# Altium schematic symbol library Sch_Resistors.SchLib: 18 symbols
Pins are listed as number, name and electrical type; pins without a type are passive.

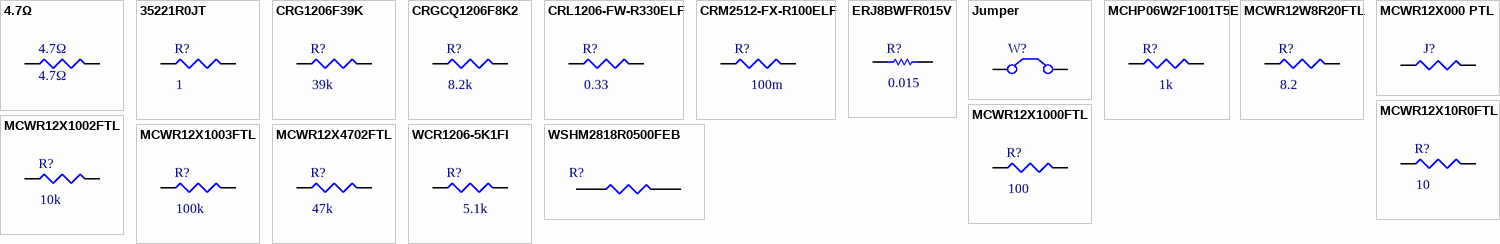
[diagram p0: symbols 4.7Ω to WSHM2818R0500FEB]

## 4.7Ω
designator 4.7Ω
Resistor; Published: 8-Jun-2000; LatestRevisionDate: 29-May-2009; LatestRevisionNote: IPC-7351 Footprint Added.; PackageReference: J1-0603; Publisher: Altium Limited; PackageDescription: Chip Resistor
footprint RESC3216X75N
pins: 1, 1, 2, 2

## 35221R0JT
designator R?  value 1  (hidden comment: 35221R0JT)
Resistor 1 3W; Published: 8-Jun-2000; LatestRevisionDate: 29-May-2009; LatestRevisionNote: IPC-7351 Footprint Added.; PackageReference: J1-0603; Publisher: Altium Limited; PackageDescription: Chip Resistor; Supplier 1: Farnell
footprint RESC6432X120N
pins: 1, 1, 1, 1, 1, 1, 1, 1, 2, 2, 2, 2, 2, 2, 2, 2

## CRG1206F39K
designator R?  value 39k  (hidden comment: CRG1206F39K)
Resistor 39k; Published: 8-Jun-2000; LatestRevisionDate: 29-May-2009; LatestRevisionNote: IPC-7351 Footprint Added.; PackageReference: J1-0603; Publisher: Altium Limited; PackageDescription: Chip Resistor; supplier: farnell
footprint RESC3216X75N
pins: 1, 2

## CRGCQ1206F8K2
designator R?  value 8.2k  (hidden comment: CRGCQ1206F8K2)
Resistor 8.2k; Published: 8-Jun-2000; LatestRevisionDate: 29-May-2009; LatestRevisionNote: IPC-7351 Footprint Added.; PackageReference: J1-0603; Publisher: Altium Limited; PackageDescription: Chip Resistor; Supplier 1: Mouser
footprint RESC3216X75N
pins: 1, 2

## CRL1206-FW-R330ELF
designator R?  value 0.33  (hidden comment: CRL1206-FW-R330ELF)
Resistor 0.33; Published: 8-Jun-2000; LatestRevisionDate: 29-May-2009; LatestRevisionNote: IPC-7351 Footprint Added.; PackageReference: J1-0603; Publisher: Altium Limited; PackageDescription: Chip Resistor; Supplier 1: Farnell
footprint RESC3216X75N
pins: 1, 2

## CRM2512-FX-R100ELF
designator R?, comment value 100m  (hidden comment: ???)
Resistor 100m; Published: 8-Jun-2000; LatestRevisionDate: 29-May-2009; LatestRevisionNote: IPC-7351 Footprint Added.; PackageReference: J1-0603; Publisher: Altium Limited; PackageDescription: Chip Resistor; Supplier 1: Mouser
footprint RESC6331X80N
pins: 1, 2

## ERJ8BWFR015V
designator R?  value 0.015  (hidden comment: ERJ8BWFR015V)
Shunt resistor 0.015; Published: 8-Jun-2000; LatestRevisionDate: 17-Jul-2002; LatestRevisionNote: Re-released for DXP Platform.; PackageReference: AXIAL-0.3; Publisher: Altium Limited; PackageDescription: Axial Device, Thru-Hole; 2 Leads; 0.3 in Pin Spacing; Supplier 1: Mouser
footprint RESC3216X75N
pins: 1, 2

## Jumper
designator W?  (value not drawn)
Jumper Wire; Published: 24-Mar-1999; LatestRevisionDate: 17-Jul-2002; LatestRevisionNote: Re-released for DXP Platform.; PackageReference: RAD-0.2; Publisher: Altium Limited; PackageDescription: Radial Cap, Thru-Hole; 2 Leads; 0.2 in Pin Spacing
footprint RAD-0.2 (Radial Cap, Thru-Hole; 2 Leads; 0.2 in Pin Spacing)
pins: 1 C1, 2 C2

## MCHP06W2F1001T5E
designator R?  value 1k  (hidden comment: MCHP06W2F1001T5E)
Resistor 1k; Published: 8-Jun-2000; LatestRevisionDate: 29-May-2009; LatestRevisionNote: IPC-7351 Footprint Added.; PackageReference: J1-0603; Publisher: Altium Limited; PackageDescription: Chip Resistor; supplier: farnell; Supplier 1: Farnell
footprint RESC3216X75N
pins: 1, 2

## MCWR12W8R20FTL
designator R?  value 8.2  (hidden comment: MCWR12W8R20FTL)
Resistor 8.2; Published: 8-Jun-2000; LatestRevisionDate: 29-May-2009; LatestRevisionNote: IPC-7351 Footprint Added.; PackageReference: J1-0603; Publisher: Altium Limited; PackageDescription: Chip Resistor; Supplier 1: Farnell
footprint RESC3216X75N
pins: 1, 2

## MCWR12X000 PTL
designator J?  (value not drawn)
Zero ohm resistor; Value: 0
footprint RESC3216X75N
pins: 1, 2

## MCWR12X10R0FTL
designator R?  value 10  (hidden comment: MCWR12X10R0FTL)
Resistor 10; Published: 8-Jun-2000; LatestRevisionDate: 29-May-2009; LatestRevisionNote: IPC-7351 Footprint Added.; PackageReference: J1-0603; Publisher: Altium Limited; PackageDescription: Chip Resistor; Supplier 1: Farnell
footprint RESC3216X75N
pins: 1, 1, 2, 2

## MCWR12X1000FTL
designator R?  value 100  (hidden comment: MCWR12X1000FTL)
Resistor 100; Published: 8-Jun-2000; LatestRevisionDate: 29-May-2009; LatestRevisionNote: IPC-7351 Footprint Added.; PackageReference: J1-0603; Publisher: Altium Limited; PackageDescription: Chip Resistor; Supplier 1: Farnell
footprint RESC3216X75N
pins: 1, 2

## MCWR12X1002FTL
designator R?  value 10k  (hidden comment: MCWR12X1002FTL)
Resistor 10k; Published: 8-Jun-2000; LatestRevisionDate: 29-May-2009; LatestRevisionNote: IPC-7351 Footprint Added.; PackageReference: J1-0603; Publisher: Altium Limited; PackageDescription: Chip Resistor; Supplier 1: Farnell
footprint RESC3216X75N
pins: 1, 2

## MCWR12X1003FTL
designator R?  value 100k  (hidden comment: MCWR12X1003FTL)
Resistor 100k; Published: 8-Jun-2000; LatestRevisionDate: 29-May-2009; LatestRevisionNote: IPC-7351 Footprint Added.; PackageReference: J1-0603; Publisher: Altium Limited; PackageDescription: Chip Resistor; Supplier 1: Farnell
footprint RESC3216X75N
pins: 1, 2

## MCWR12X4702FTL
designator R?  value 47k  (hidden comment: MCWR12X4702FTL)
Resistor 47k; Published: 8-Jun-2000; LatestRevisionDate: 29-May-2009; LatestRevisionNote: IPC-7351 Footprint Added.; PackageReference: J1-0603; Publisher: Altium Limited; PackageDescription: Chip Resistor; supplier: farnell
footprint RESC3216X75N
pins: 1, 2

## WCR1206-5K1FI
designator R?  value 5.1k  (hidden comment: WCR1206-5K1FI)
Resistor 5.1k; Published: 8-Jun-2000; LatestRevisionDate: 29-May-2009; LatestRevisionNote: IPC-7351 Footprint Added.; PackageReference: J1-0603; Publisher: Altium Limited; PackageDescription: Chip Resistor; Supplier 1: Mouser
footprint RESC3216X75N
pins: 1, 2

## WSHM2818R0500FEB
designator R?  (value not drawn)
Resistor 50m; Manufacturer_Name: Vishay; Datasheet Link: https://componentsearchengine.com/Datasheets/2/WSHM2818R0500FEB.pdf; Height: 1.75mm; Manufacturer_Part_Number: WSHM2818R0500FEB; Mouser Part Number: 71-WSHM2818R0500FEB; Mouser Price/Stock: https://www.mouser.com/Search/Refine.aspx?Keyword=71-WSHM2818R0500FEB; Value: 50m
footprint RESC7146X175N
pins: 1, 1, 2, 2